# EAGLE library part I2C-I/O-EXPANDER-8CH-TCA9534 (library FlashPCB_ICs)
TCA9534 - IC XPNDR 400KHZ I2C 16SOIC Technical Specifications: I/O Expander 8 I2C 400 kHz 16-SOIC Number of I/O: 8 Number of Devices: 8 Interface: I2C to Parallel Port Expander Interface Interrupt SDA/SCL Input Noise Filter Output Type: Push-Pull Clock Frequency: 400kHz Supply Voltage: 1.65V~5.5V I/O Port Voltage Tolerance: 5V Component Search: TCA9534A <https://www.flashpcb.com/components> Datasheet: TCA9534A Low Voltage 8-Bit I2C and SMBUS Low-Power I/O Expander With Interrupt Output and Configuration Registers datasheet (Rev. C) <https://www.ti.com/lit/ds/symlink/tca9534a.pdf?HQS=dis-dk-null-digikeymode-dsf-pf-null-wwe&ts=1685026847606&ref_url=https%253A%252F%252Fwww.ti.com%252Fgeneral%252Fdocs%252Fsuppproductinfo.tsp%253FdistId%253D10%2526gotoUrl%253Dhttps%253A%252F%252Fwww.ti.com%252Flit%252Fgpn%252Ftca9534a>
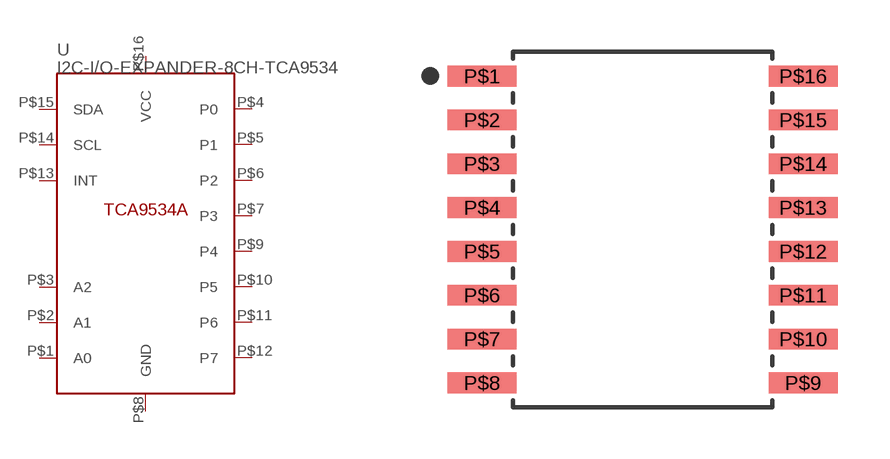
[diagram p48: symbol with the pads of SOIC-16-295MIL-7.5MM; footprint SOIC-16-295MIL-7.5MM]

Designator prefix U

## I2C-I/O-EXPANDER-8CH-TCA9534DW  [SOIC-16-295MIL-7.5MM]
P$1  A0
P$2  A1
P$3  A2
P$4  P0
P$5  P1
P$6  P2
P$7  P3
P$8  GND
P$9  P4
P$10  P5
P$11  P6
P$12  P7
P$13  INT
P$14  SCL
P$15  SDA
P$16  VCC

## Footprint SOIC-16-295MIL-7.5MM (pad centres in mm)
smd 2 x 0.6: P$1 -4.65,4.445; P$2 -4.65,3.175; P$3 -4.65,1.905; P$4 -4.65,0.635; P$5 -4.65,-0.635; P$6 -4.65,-1.905; P$7 -4.65,-3.175; P$8 -4.65,-4.445; P$9 4.65,-4.445; P$10 4.65,-3.175; P$11 4.65,-1.905; P$12 4.65,-0.635; P$13 4.65,0.635; P$14 4.65,1.905; P$15 4.65,3.175; P$16 4.65,4.445